# Altium footprint library PCF8574AP.PcbLib: 1 footprints
Each footprint in its own frame and in the unit in brackets; x right, y up, seen from the top. Pads: shape width x height; smd on the part's side, far side on the other; paste and mask are expansions set on the pad; w line width, h text height; cw(c..) or ccw(c..) is an arc to the next point about the centre after c.
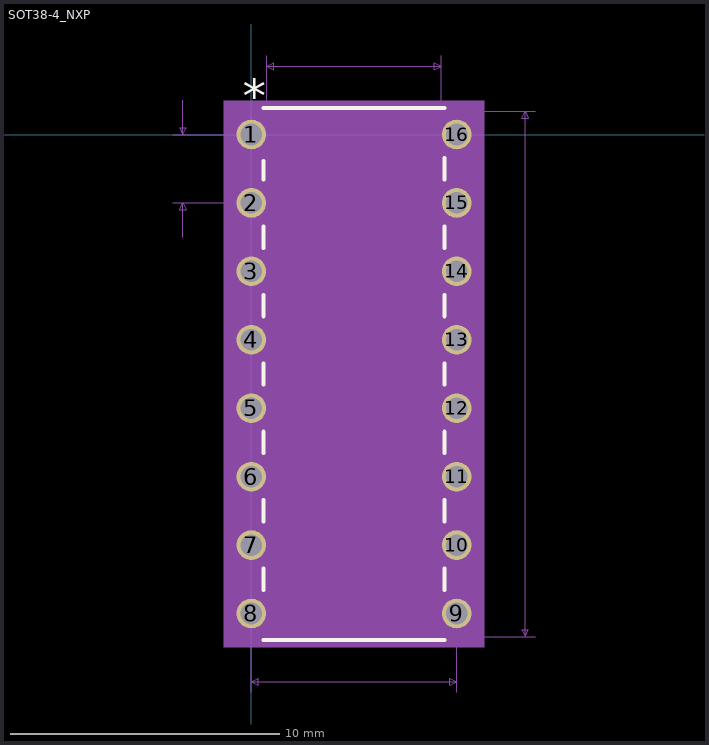
[diagram p0: the footprint, top view; thin cyan lines are the x and y axes]

## SOT38-4_NXP [mm]
pads (16):
  round 1.1 / inner rect 1.295x1.295 / far side round 1.1 hole 0.8 mask+0: 1(0,0)
  round 1.1 / inner round 1.295 / far side round 1.1 hole 0.8 mask+0: 2(0,-2.54) 3(0,-5.08) 4(0,-7.62) 5(0,-10.16) 6(0,-12.7) 7(0,-15.24) 8(0,-17.78) 9(7.62,-17.78) 10(7.62,-15.24) 11(7.62,-12.7) 12(7.62,-10.16) 13(7.62,-7.62) 14(7.62,-5.08) 15(7.62,-2.54) 16(7.62,0)
Top Overlay:
  lines w0.152: 0.445,-18.771 7.175,-18.771 ; 0.445,-16.906 0.445,-16.114 ; 0.445,-14.366 0.445,-13.574 ; 0.445,-11.826 0.445,-11.034 ; 0.445,-9.286 0.445,-8.494 ; 0.445,-6.746 0.445,-5.954 ; 0.445,-4.206 0.445,-3.414 ; 0.445,-1.666 0.445,-0.98 ; 0.445,0.991 7.175,0.991 ; 7.175,-16.906 7.175,-16.114 ; 7.175,-14.366 7.175,-13.574 ; 7.175,-11.826 7.175,-11.034 ; 7.175,-9.286 7.175,-8.494 ; 7.175,-6.746 7.175,-5.954 ; 7.175,-4.206 7.175,-3.414 ; 7.175,-1.666 7.175,-0.874
  text "*" at -0.318,0.775 h1.27
Mechanical 5:
  region: 8.649,-19.025 -1.029,-19.025 -1.029,1.245 8.649,1.245
Mechanical 7:
  lines w0.025: -2.921,-2.54 0,-2.54 ; -2.921,0 0,0 ; -2.54,-3.81 -2.54,-2.54 ; -2.54,1.27 -2.54,0 ; 0,-20.701 0,-17.78 ; 0.572,-17.78 0.572,2.921 ; 3.81,-18.644 10.541,-18.644 ; 3.81,0.864 10.541,0.864 ; 7.048,-17.78 7.048,2.921 ; 7.62,-20.701 7.62,-17.78 ; -2.54,-2.54 -2.413,-2.794 -2.667,-2.794 -2.54,-2.54 ; -2.54,0 -2.413,0.254 -2.667,0.254 -2.54,0 ; 0,-20.32 0.254,-20.447 0.254,-20.193 0,-20.32 ; 0,-20.32 7.62,-20.32 ; 0.572,2.54 0.826,2.413 0.826,2.667 0.572,2.54 ; 0.572,2.54 7.048,2.54 ; 7.048,2.54 6.794,2.413 6.794,2.667 7.048,2.54 ; 7.62,-20.32 7.366,-20.447 7.366,-20.193 7.62,-20.32 ; 10.16,-18.644 10.287,-18.39 10.033,-18.39 10.16,-18.644 ; 10.16,-18.644 10.16,0.864 ; 10.16,0.864 10.287,0.61 10.033,0.61 10.16,0.864
  text "0.768in/19.507mm" at 10.668,-9.207 h0.64
  text "0.255in/6.477mm" at 1.429,3.048 h0.64
  text "0.3in/7.62mm" at 1.905,-21.463 h0.64
  text "0.1in/2.54mm" at -6.858,-1.587 h0.64
  text "Alt 2 Padstyle: b229_152h76" at -4.763,-29.858 h1.27
  text "Alt 1 Padstyle: b152_229h76" at -4.763,-28.588 h1.27
  text "Pin 1 Padstyle: s130h79" at -3.492,-27.318 h1.27
  text "Default Padstyle: c130h79" at -4.127,-24.778 h1.27
Mechanical 13:
  lines w0: 3.505,0.864 ccw(c3.81,0.864) 4.115,0.864
  lines w0.025: -0.394,-18.174 0.572,-18.174 0.572,-17.386 -0.394,-17.386 -0.394,-18.174 ; -0.394,-15.634 0.572,-15.634 0.572,-14.846 -0.394,-14.846 -0.394,-15.634 ; -0.394,-13.094 0.572,-13.094 0.572,-12.306 -0.394,-12.306 -0.394,-13.094 ; -0.394,-10.554 0.572,-10.554 0.572,-9.766 -0.394,-9.766 -0.394,-10.554 ; -0.394,-8.014 0.572,-8.014 0.572,-7.226 -0.394,-7.226 -0.394,-8.014 ; -0.394,-5.474 0.572,-5.474 0.572,-4.686 -0.394,-4.686 -0.394,-5.474 ; -0.394,-2.934 0.572,-2.934 0.572,-2.146 -0.394,-2.146 -0.394,-2.934 ; -0.394,-0.394 0.572,-0.394 0.572,0.394 -0.394,0.394 -0.394,-0.394 ; 0.572,-18.644 0.572,0.864 7.048,0.864 7.048,-18.644 0.572,-18.644 ; 7.048,-18.174 8.014,-18.174 8.014,-17.386 7.048,-17.386 7.048,-18.174 ; 7.048,-15.634 8.014,-15.634 8.014,-14.846 7.048,-14.846 7.048,-15.634 ; 7.048,-13.094 8.014,-13.094 8.014,-12.306 7.048,-12.306 7.048,-13.094 ; 7.048,-10.554 8.014,-10.554 8.014,-9.766 7.048,-9.766 7.048,-10.554 ; 7.048,-8.014 8.014,-8.014 8.014,-7.226 7.048,-7.226 7.048,-8.014 ; 7.048,-5.474 8.014,-5.474 8.014,-4.686 7.048,-4.686 7.048,-5.474 ; 7.048,-2.934 8.014,-2.934 8.014,-2.146 7.048,-2.146 7.048,-2.934 ; 7.048,-0.394 8.014,-0.394 8.014,0.394 7.048,0.394 7.048,-0.394
  text "*" at 0.508,-0.635 h1.27
Mechanical 15:
  region: 7.302,-18.682 8.522,-18.682 8.522,0.902 7.302,0.902 7.302,1.118 0.318,1.118 0.318,0.902 -0.902,0.902 -0.902,-18.682 0.318,-18.682 0.318,-18.898 7.302,-18.898
  lines w0.152: -0.902,-18.682 0.318,-18.682 0.318,-18.898 7.302,-18.898 7.302,-18.682 8.522,-18.682 8.522,0.902 7.302,0.902 7.302,1.118 0.318,1.118 0.318,0.902 -0.902,0.902 -0.902,-18.682
3D body: height 0.25, standoff 0, extent 0,0 0.254,0.254
3D body "PCF8574AP_SOT38-4_NXP.step": height 4.32, standoff -2.54, extent -0.254,-18.644 7.874,0.864